# Altium schematic symbol library ACRK-16-01-G-T-B1-M-1.SchLib: 1 symbol
Pins are listed as number, name and electrical type; pins without a type are passive.

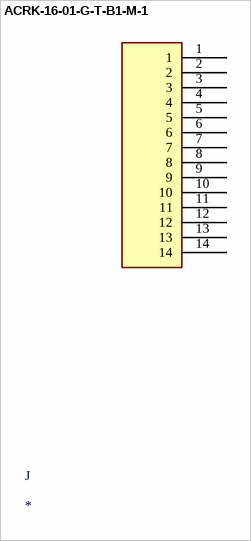
[diagram p0: symbol ACRK-16-01-G-T-B1-M-1]

## ACRK-16-01-G-T-B1-M-1
designator J
footprint PCBComponent_1
pins: 1, 2, 3, 4, 5, 6, 7, 8, 9, 10, 11, 12, 13, 14